# EAGLE library part WE-FB_EFD25_SCH1 (library Wurth_Power Magnetics_WE-FB)
WE-FB Flyback Transformer suitable for LT3573/ LT3574/ LT3575/ LT3748 Characteristics easy design in solution less external components needed small board space low cost no optocoupler needed! long term reliability voltage control no aging same external parts for different output voltages easy design of custom power supply due to standard circuit and change of transformers and two components for feedback loop Isolation voltage up to 2.5 kV Applications Isolated power design Sensor interfaces Isolated telecom converters Power over Ethernet The "VALUE"shown for symbol and packaging is Ooutput Voltage 1 Output Current 1 <https://katalog.we-online.com/media/images/v2/o35283v209%20Family_we-fb_LT%20Kits_gruppe.jpg> Details see: https://katalog.we-online.com/en/pbs/WE-FB Updated by Yingchun,Shan 2019-08-27 2019 Wurth Elektronik
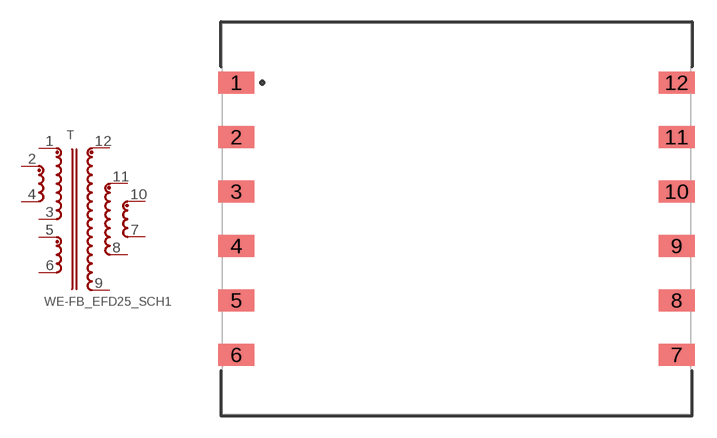
[diagram p6: symbol with the pads of WE-FB_EFD25; footprint WE-FB_EFD25]

Designator prefix T

## WE-FB_EFD25_SCH1_750311589 (DATASHEET-URL: https://katalog.we-online.com/pbs/datasheet/750311589.pdf; ISAT: 18A; L: 6uH; LSMIN: 0.2uH; N: 3:1; PART-NUMBER: 750311589; VALUE: 5V 9A; VI: 20-48V(DC); VT: 1500V(AC)), WE-FB_EFD25_SCH1_750311590 (DATASHEET-URL: https://katalog.we-online.com/pbs/datasheet/750311590.pdf; ISAT: 18A; L: 8uH; LSMIN: 0.2uH; N: 2:1; PART-NUMBER: 750311590; VALUE: 12V 3.8A; VI: 20-48V(DC); VT: 1500V(AC)), WE-FB_EFD25_SCH1_750311591 (DATASHEET-URL: https://katalog.we-online.com/pbs/datasheet/750311591.pdf; ISAT: 20A; L: 8uH; LSMIN: 0.2uH; N: 3:2; PART-NUMBER: 750311591; VALUE: 15V 3A; VI: 20-48V(DC); VT: 1500V(AC)), WE-FB_EFD25_SCH1_750311592 (DATASHEET-URL: https://katalog.we-online.com/pbs/datasheet/750311592.pdf; ISAT: 18A; L: 8uH; LSMIN: 0.2uH; N: 1:1; PART-NUMBER: 750311592; VALUE: 24V 1.9A; VI: 20-48V(DC); VT: 1500V(AC)), WE-FB_EFD25_SCH1_750311593 (DATASHEET-URL: https://katalog.we-online.com/pbs/datasheet/750311593.pdf; ISAT: 18A; L: 15uH; LSMIN: 0.3uH; N: 7:2; PART-NUMBER: 750311593; VALUE: 5V 9A; VI: 30-75V(DC); VT: 1500V(AC)), WE-FB_EFD25_SCH1_750311594 (DATASHEET-URL: https://katalog.we-online.com/pbs/datasheet/750311594.pdf; ISAT: 18A; L: 15uH; LSMIN: 0.4uH; N: 5:2; PART-NUMBER: 750311594; VALUE: 12V 3.8A; VI: 30-75V(DC); VT: 1500V(AC)), WE-FB_EFD25_SCH1_750311595 (DATASHEET-URL: https://katalog.we-online.com/pbs/datasheet/750311595.pdf; ISAT: 16A; L: 12uH; LSMIN: 0.2uH; N: 2:1; PART-NUMBER: 750311595; VALUE: 15V 3A; VI: 30-75V(DC); VT: 2500V(AC)), WE-FB_EFD25_SCH1_750311596 (DATASHEET-URL: https://katalog.we-online.com/pbs/datasheet/750311596.pdf; ISAT: 18A; L: 12uH; LSMIN: 0.2uH; N: 3:2; PART-NUMBER: 750311596; VALUE: 24V 1.9A; VI: 30-75V(DC); VT: 1500V(AC)), WE-FB_EFD25_SCH1_750311771 (DATASHEET-URL: https://katalog.we-online.com/pbs/datasheet/750311771.pdf; ISAT: 2.5A; L: 500uH; LSMIN: 5uH; N: 6:1; PART-NUMBER: 750311771; VALUE: 15V 3A; VI: 100-400V(DC); VT: 1500V(AC)), WE-FB_EFD25_SCH1_750311783 (DATASHEET-URL: https://katalog.we-online.com/pbs/datasheet/750311783.pdf; ISAT: 16A; L: 20uH; LSMIN: 0.17uH; N: 1.5:1; PART-NUMBER: 750311783; VALUE: 24V 2.5A; VI: 19-70V(DC); VT: 1500V(AC))  [WE-FB_EFD25]
1  1  pas
2  2  pas
3  4  pas
4  3  pas
5  5  pas
6  6  pas
7  9  pas
8  8  pas
9  7  pas
10  10  pas
11  11  pas
12  12  pas

## Footprint WE-FB_EFD25 (pad centres in mm)
WE-FB Flyback Transformer suitable for LT3573/ LT3574/ LT3575/ LT3748 Size: EFD25 SMD12 Pin
smd 2.5 x 1.52: 1 -15.19,9.4; 2 -15.19,5.64; 3 -15.19,1.88; 4 -15.19,-1.88; 5 -15.19,-5.64; 6 -15.19,-9.4; 7 15.19,-9.4; 8 15.19,-5.64; 9 15.19,-1.88; 10 15.19,1.88; 11 15.19,5.64; 12 15.19,9.4